# EAGLE library part ATTINY84 (library RobotMower_Eagle_Library v9)
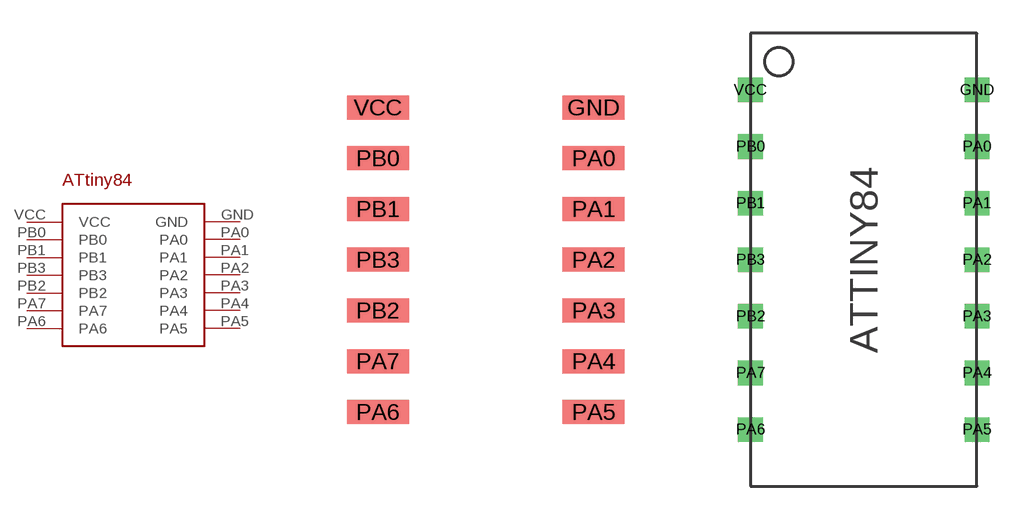
[diagram p0: symbol with the pads of ATTINY84(SOIC); footprints ATTINY84(SOIC), ATTINY84(DIP)]

Designator prefix -

## ATTINY84SOIC  [ATTINY84(SOIC)]
GND  GND
PA0  PA0
PA1  PA1
PA2  PA2
PA3  PA3
PA4  PA4
PA5  PA5
PA6  PA6
PA7  PA7
PB0  PB0
PB1  PB1
PB2  PB2
PB3  PB3
VCC  VCC

## ATTINY84DIP  [ATTINY84(DIP)]
Pads as for ATTINY84(SOIC)

## Footprint ATTINY84(SOIC) (pad centres in mm)
smd 1.55 x 0.6: GND 5.397,0; PA0 5.397,-1.27; PA1 5.397,-2.54; PA2 5.397,-3.81; PA3 5.397,-5.08; PA4 5.397,-6.35; PA5 5.397,-7.62; PA6 0,-7.62; PA7 0,-6.35; PB0 0,-1.27; PB1 0,-2.54; PB2 0,-5.08; PB3 0,-3.81; VCC 0,0

## Footprint ATTINY84(DIP) (pad centres in mm)
drill 0.6 square: GND 10.16,0; PA0 10.16,-2.54; PA1 10.16,-5.08; PA2 10.16,-7.62; PA3 10.16,-10.16; PA4 10.16,-12.7; PA5 10.16,-15.24; PA6 0,-15.24; PA7 0,-12.7; PB0 0,-2.54; PB1 0,-5.08; PB2 0,-10.16; PB3 0,-7.62; VCC 0,0